# Altium schematic symbol library G6S-2F.SchLib: 1 symbol
Pins are listed as number, name and electrical type; pins without a type are passive.

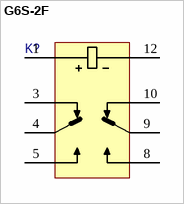
[diagram p0: symbol G6S-2F]

## G6S-2F
designator K?  (value not drawn)
pins: 1 +, 3 NC1, 4 C1, 5 NO1, 8 NO2, 9 C2, 10 NC2, 12 -